# EAGLE library part ES920LR_MODULE (library FaBo-LoRa)
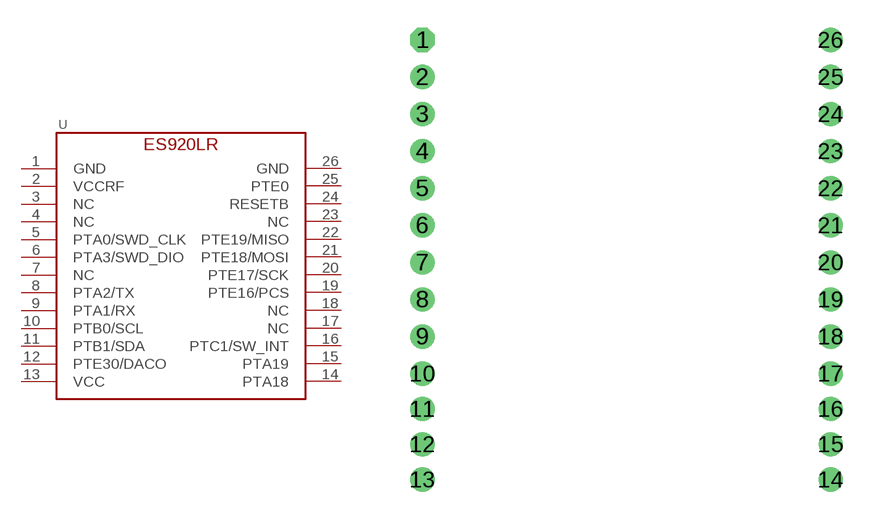
[diagram p3: symbol with the pads of MODULE; footprint MODULE]

Designator prefix U

## ES920LR_MODULE  [MODULE]
1  GND
2  VCCRF
3  NC
4  NC
5  PTA0/SWD_CLK
6  PTA3/SWD_DIO
7  NC
8  PTA2/TX
9  PTA1/RX
10  PTB0/SCL
11  PTB1/SDA
12  PTE30/DACO
13  VCC
14  PTA18
15  PTA19
16  PTC1/SW_INT
17  NC
18  NC
19  PTE16/PCS
20  PTE17/SCK
21  PTE18/MOSI
22  PTE19/MISO
23  NC
24  RESETB
25  PTE0
26  GND

## Footprint MODULE (pad centres in mm)
drill 0.8 pad 1.27 octagon: 1 -11,9
drill 0.8 pad 1.27: 2 -11,7; 3 -11,5; 4 -11,3; 5 -11,1; 6 -11,-1; 7 -11,-3; 8 -11,-5; 9 -11,-7; 10 -11,-9; 11 -11,-10.905; 12 -11,-12.81; 13 -11,-14.715; 14 11,-14.715; 15 11,-12.81; 16 11,-10.905; 17 11,-9; 18 11,-7; 19 11,-5; 20 11,-3; 21 11,-1; 22 11,1; 23 11,3; 24 11,5; 25 11,7; 26 11,9